# EAGLE library part 10PHEADER_DEV (library PINHEADER)
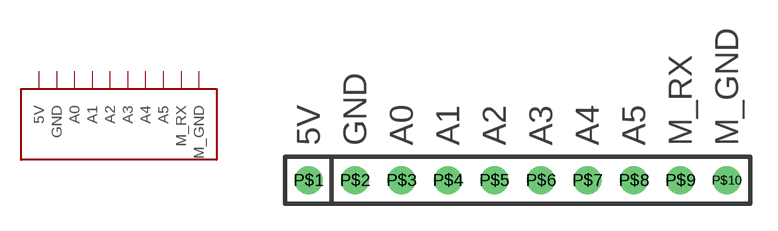
[diagram p1: symbol with the pads of 10PHEADER_PAC; footprint 10PHEADER_PAC]

Designator prefix -

## 10PHEADER_DEV  [10PHEADER_PAC]
P$1  5V  pwr
P$2  GND  sup
P$3  A0
P$4  A1
P$5  A2
P$6  A3
P$7  A4
P$8  A5
P$9  M_RX
P$10  M_GND  sup

## Footprint 10PHEADER_PAC (pad centres in mm)
drill 0.991 pad 1.524 round: P$1 2.54,0; P$2 5.08,0; P$3 7.62,0; P$4 10.16,0; P$5 12.7,0; P$6 15.24,0; P$7 17.78,0; P$8 20.32,0; P$9 22.86,0; P$10 25.4,0